# Altium footprint library apollo.PcbLib: 245 footprints (part 13 of 16)
Each footprint in its own frame and in the unit in brackets; x right, y up, seen from the top. Pads: shape width x height; smd on the part's side, far side on the other; paste and mask are expansions set on the pad; w line width, h text height; cw(c..) or ccw(c..) is an arc to the next point about the centre after c.
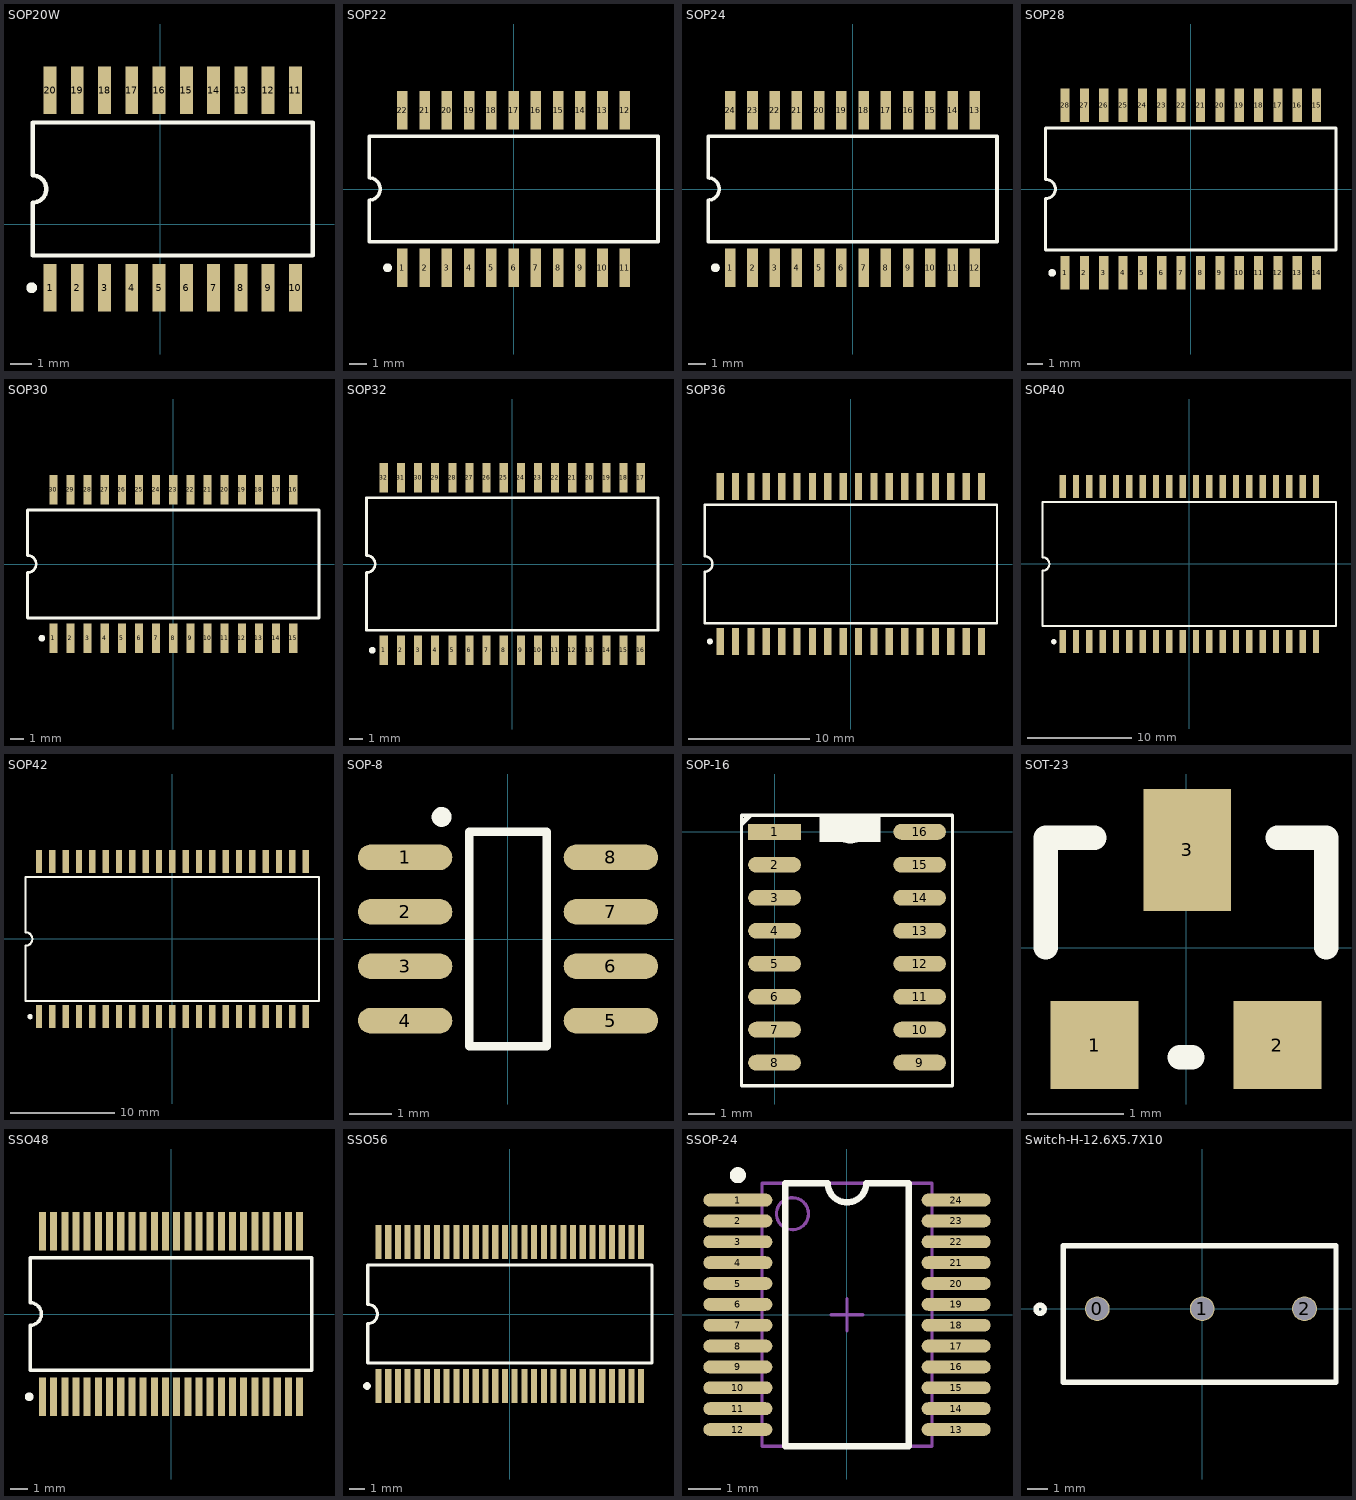
[diagram p12: the footprints below, top view; thin cyan lines are the x and y axes]

## SOP20W [mm]
height 13
pads (20):
  rect 0.6x2.2 smd: 1(-5.131,-2.949) 2(-3.861,-2.949) 3(-2.591,-2.949) 4(-1.321,-2.949) 5(-0.051,-2.949) 6(1.219,-2.949) 7(2.489,-2.949) 8(3.759,-2.949) 9(5.029,-2.949) 10(6.299,-2.949) 11(6.299,6.251) 12(5.029,6.251) 13(3.759,6.251) 14(2.489,6.251) 15(1.219,6.251) 16(-0.051,6.251) 17(-1.321,6.251) 18(-2.591,6.251) 19(-3.861,6.251) 20(-5.131,6.251)
Top Overlay:
  circle w0.25: c-5.981,-2.949 r0.125
  lines w0.2: -5.941,-1.449 -5.941,1.016 ccw(c-5.941,1.651) -5.941,2.286 -5.941,4.751 7.109,4.751 7.109,-1.449 -5.941,-1.449

## SOP22 [mm] "Small Outline; 22 Leads; Body Width 7.2 mm; Pitch 1.27 mm"
height 2.5
pads (22):
  rect 0.6x2.2 smd: 1(-6.35,-4.5) 2(-5.08,-4.5) 3(-3.81,-4.5) 4(-2.54,-4.5) 5(-1.27,-4.5) 6(0,-4.5) 7(1.27,-4.5) 8(2.54,-4.5) 9(3.81,-4.5) 10(5.08,-4.5) 11(6.35,-4.5) 12(6.35,4.5) 13(5.08,4.5) 14(3.81,4.5) 15(2.54,4.5) 16(1.27,4.5) 17(0,4.5) 18(-1.27,4.5) 19(-2.54,4.5) 20(-3.81,4.5) 21(-5.08,4.5) 22(-6.35,4.5)
Top Overlay:
  circle w0.25: c-7.2,-4.5 r0.125
  lines w0.2: -8.25,-3 -8.25,-0.635 ccw(c-8.25,0) -8.25,0.635 -8.25,3 8.25,3 8.25,-3 -8.25,-3

## SOP24 [mm] "Small Outline; 24 Leads; Body Width 7.2 mm; Pitch 1.27 mm"
height 2.5
pads (24):
  rect 0.6x2.2 smd: 1(-6.985,-4.5) 2(-5.715,-4.5) 3(-4.445,-4.5) 4(-3.175,-4.5) 5(-1.905,-4.5) 6(-0.635,-4.5) 7(0.635,-4.5) 8(1.905,-4.5) 9(3.175,-4.5) 10(4.445,-4.5) 11(5.715,-4.5) 12(6.985,-4.5) 13(6.985,4.5) 14(5.715,4.5) 15(4.445,4.5) 16(3.175,4.5) 17(1.905,4.5) 18(0.635,4.5) 19(-0.635,4.5) 20(-1.905,4.5) 21(-3.175,4.5) 22(-4.445,4.5) 23(-5.715,4.5) 24(-6.985,4.5)
Top Overlay:
  circle w0.25: c-7.835,-4.5 r0.125
  lines w0.2: -8.25,-3 8.25,-3 8.25,3 -8.25,3 -8.25,0.635 cw(c-8.25,0) -8.25,-0.635 -8.25,-3

## SOP28 [mm] "Small Outline; 28 Leads; Body Width 9.1 mm; Pitch 1.27 mm"
height 3
pads (28):
  rect 0.6x2.2 smd: 1(-8.255,-5.5) 2(-6.985,-5.5) 3(-5.715,-5.5) 4(-4.445,-5.5) 5(-3.175,-5.5) 6(-1.905,-5.5) 7(-0.635,-5.5) 8(0.635,-5.5) 9(1.905,-5.5) 10(3.175,-5.5) 11(4.445,-5.5) 12(5.715,-5.5) 13(6.985,-5.5) 14(8.255,-5.5) 15(8.255,5.5) 16(6.985,5.5) 17(5.715,5.5) 18(4.445,5.5) 19(3.175,5.5) 20(1.905,5.5) 21(0.635,5.5) 22(-0.635,5.5) 23(-1.905,5.5) 24(-3.175,5.5) 25(-4.445,5.5) 26(-5.715,5.5) 27(-6.985,5.5) 28(-8.255,5.5)
Top Overlay:
  circle w0.25: c-9.105,-5.5 r0.125
  lines w0.2: -9.525,-4 -9.525,-0.635 ccw(c-9.525,0) -9.525,0.635 -9.525,4 9.525,4 9.525,-4 -9.525,-4

## SOP30 [mm] "Small Outline; 30 Leads; Body Width 9.1 mm; Pitch 1.27 mm"
height 3
pads (30):
  rect 0.6x2.2 smd: 1(-8.89,-5.5) 2(-7.62,-5.5) 3(-6.35,-5.5) 4(-5.08,-5.5) 5(-3.81,-5.5) 6(-2.54,-5.5) 7(-1.27,-5.5) 8(0,-5.5) 9(1.27,-5.5) 10(2.54,-5.5) 11(3.81,-5.5) 12(5.08,-5.5) 13(6.35,-5.5) 14(7.62,-5.5) 15(8.89,-5.5) 16(8.89,5.5) 17(7.62,5.5) 18(6.35,5.5) 19(5.08,5.5) 20(3.81,5.5) 21(2.54,5.5) 22(1.27,5.5) 23(0,5.5) 24(-1.27,5.5) 25(-2.54,5.5) 26(-3.81,5.5) 27(-5.08,5.5) 28(-6.35,5.5) 29(-7.62,5.5) 30(-8.89,5.5)
Top Overlay:
  circle w0.25: c-9.74,-5.5 r0.125
  lines w0.2: -10.8,-4 10.8,-4 10.8,4 -10.8,4 -10.8,0.635 cw(c-10.8,0) -10.8,-0.635 -10.8,-4

## SOP32 [mm] "Small Outline; 32 Leads; Body Width 11 mm; Pitch 1.27 mm"
height 3.5
pads (32):
  rect 0.6x2.2 smd: 1(-9.525,-6.4) 2(-8.255,-6.4) 3(-6.985,-6.4) 4(-5.715,-6.4) 5(-4.445,-6.4) 6(-3.175,-6.4) 7(-1.905,-6.4) 8(-0.635,-6.4) 9(0.635,-6.4) 10(1.905,-6.4) 11(3.175,-6.4) 12(4.445,-6.4) 13(5.715,-6.4) 14(6.985,-6.4) 15(8.255,-6.4) 16(9.525,-6.4) 17(9.525,6.4) 18(8.255,6.4) 19(6.985,6.4) 20(5.715,6.4) 21(4.445,6.4) 22(3.175,6.4) 23(1.905,6.4) 24(0.635,6.4) 25(-0.635,6.4) 26(-1.905,6.4) 27(-3.175,6.4) 28(-4.445,6.4) 29(-5.715,6.4) 30(-6.985,6.4) 31(-8.255,6.4) 32(-9.525,6.4)
Top Overlay:
  circle w0.25: c-10.375,-6.4 r0.125
  lines w0.2: -10.8,-4.9 -10.8,-0.635 ccw(c-10.8,0) -10.8,0.635 -10.8,4.9 10.8,4.9 10.8,-4.9 -10.8,-4.9

## SOP36 [mm] "Small Outline; 36 Leads; Body Width 11 mm; Pitch 1.27 mm"
height 3.5
pads (36):
  rect 0.6x2.2 smd: 1(-10.795,-6.4) 2(-9.525,-6.4) 3(-8.255,-6.4) 4(-6.985,-6.4) 5(-5.715,-6.4) 6(-4.445,-6.4) 7(-3.175,-6.4) 8(-1.905,-6.4) 9(-0.635,-6.4) 10(0.635,-6.4) 11(1.905,-6.4) 12(3.175,-6.4) 13(4.445,-6.4) 14(5.715,-6.4) 15(6.985,-6.4) 16(8.255,-6.4) 17(9.525,-6.4) 18(10.795,-6.4) 19(10.795,6.4) 20(9.525,6.4) 21(8.255,6.4) 22(6.985,6.4) 23(5.715,6.4) 24(4.445,6.4) 25(3.175,6.4) 26(1.905,6.4) 27(0.635,6.4) 28(-0.635,6.4) 29(-1.905,6.4) 30(-3.175,6.4) 31(-4.445,6.4) 32(-5.715,6.4) 33(-6.985,6.4) 34(-8.255,6.4) 35(-9.525,6.4) 36(-10.795,6.4)
Top Overlay:
  circle w0.25: c-11.645,-6.4 r0.125
  lines w0.2: -12.075,-4.9 12.075,-4.9 12.075,4.9 -12.075,4.9 -12.075,0.635 cw(c-12.075,0) -12.075,-0.635 -12.075,-4.9

## SOP40 [mm] "Small Outline; 40 Leads; Body Width 12.9 mm; Pitch 1.27 mm"
height 4
pads (40):
  rect 0.6x2.2 smd: 1(-12.065,-7.4) 2(-10.795,-7.4) 3(-9.525,-7.4) 4(-8.255,-7.4) 5(-6.985,-7.4) 6(-5.715,-7.4) 7(-4.445,-7.4) 8(-3.175,-7.4) 9(-1.905,-7.4) 10(-0.635,-7.4) 11(0.635,-7.4) 12(1.905,-7.4) 13(3.175,-7.4) 14(4.445,-7.4) 15(5.715,-7.4) 16(6.985,-7.4) 17(8.255,-7.4) 18(9.525,-7.4) 19(10.795,-7.4) 20(12.065,-7.4) 21(12.065,7.4) 22(10.795,7.4) 23(9.525,7.4) 24(8.255,7.4) 25(6.985,7.4) 26(5.715,7.4) 27(4.445,7.4) 28(3.175,7.4) 29(1.905,7.4) 30(0.635,7.4) 31(-0.635,7.4) 32(-1.905,7.4) 33(-3.175,7.4) 34(-4.445,7.4) 35(-5.715,7.4) 36(-6.985,7.4) 37(-8.255,7.4) 38(-9.525,7.4) 39(-10.795,7.4) 40(-12.065,7.4)
Top Overlay:
  circle w0.25: c-12.915,-7.4 r0.125
  lines w0.2: -13.975,-5.9 -13.975,-0.635 ccw(c-13.975,0) -13.975,0.635 -13.975,5.9 13.975,5.9 13.975,-5.9 -13.975,-5.9

## SOP42 [mm] "Small Outline; 42 Leads; Body Width 12.9 mm; Pitch 1.27 mm"
height 4
pads (42):
  rect 0.6x2.2 smd: 1(-12.7,-7.4) 2(-11.43,-7.4) 3(-10.16,-7.4) 4(-8.89,-7.4) 5(-7.62,-7.4) 6(-6.35,-7.4) 7(-5.08,-7.4) 8(-3.81,-7.4) 9(-2.54,-7.4) 10(-1.27,-7.4) 11(0,-7.4) 12(1.27,-7.4) 13(2.54,-7.4) 14(3.81,-7.4) 15(5.08,-7.4) 16(6.35,-7.4) 17(7.62,-7.4) 18(8.89,-7.4) 19(10.16,-7.4) 20(11.43,-7.4) 21(12.7,-7.4) 22(12.7,7.4) 23(11.43,7.4) 24(10.16,7.4) 25(8.89,7.4) 26(7.62,7.4) 27(6.35,7.4) 28(5.08,7.4) 29(3.81,7.4) 30(2.54,7.4) 31(1.27,7.4) 32(0,7.4) 33(-1.27,7.4) 34(-2.54,7.4) 35(-3.81,7.4) 36(-5.08,7.4) 37(-6.35,7.4) 38(-7.62,7.4) 39(-8.89,7.4) 40(-10.16,7.4) 41(-11.43,7.4) 42(-12.7,7.4)
Top Overlay:
  circle w0.25: c-13.55,-7.4 r0.125
  lines w0.2: -13.975,-5.9 -13.975,-0.635 ccw(c-13.975,0) -13.975,0.635 -13.975,5.9 13.975,5.9 13.975,-5.9 -13.975,-5.9

## SOP-8 [mm] "SOP8, 芯片主体宽6.22mm"
height 1.7
pads (8):
  oval 2.2x0.6 smd: 1(-2.4,1.905) 2(-2.4,0.635) 3(-2.4,-0.635) 4(-2.4,-1.905) 5(2.4,-1.905) 6(2.4,-0.635) 7(2.4,0.635) 8(2.4,1.905)
Top Overlay:
  lines w0.2: -0.9,-2.5 -0.9,2.5 0.9,2.5 0.9,-2.5 -0.9,-2.5
  lines w0.254: -1.448,2.819 cw(c-1.548,2.848) -1.444,2.848

## SOP-16 [mil] "SSOP 16pin"
height 62.99
pads (16):
  rect 80x24 smd: 1(0,0)
  oval 80x24 smd: 2(0,-50) 3(0,-100) 4(0,-150) 5(0,-200) 6(0,-250) 7(0,-300) 8(0,-350) 9(220,-350) 10(220,-300) 11(220,-250) 12(220,-200) 13(220,-150) 14(220,-100) 15(220,-50) 16(220,0)
Top Overlay:
  rectangle: 67.91,-15.75 160.43,24.98
  lines w5: -35.12,24.98 -50.12,9.98 -50.12,14.98 -40.12,24.98 -50.12,24.98 ; 74.88,24.98 ccw(c114.88,24.98) 154.88,24.98 ; -50.12,24.98 269.88,24.98 269.88,-385.02 -50.12,-385.02 -50.12,24.98
3D body: height 60, standoff 10, extent 25,-385 195,25
3D body: height 20, standoff 0, extent -20,-8 7,7
3D body: height 35, standoff 15, extent -6.5,-8 26,7
3D body: height 35, standoff 15, extent -6.5,-58 26,-43
3D body: height 20, standoff 0, extent -20,-58 7,-43
3D body: height 35, standoff 15, extent -6.5,-108 26,-93
3D body: height 20, standoff 0, extent -20,-108 7,-93
3D body: height 35, standoff 15, extent -6.5,-158 26,-143
3D body: height 20, standoff 0, extent -20,-158 7,-143
3D body: height 35, standoff 15, extent 194,-157 226.5,-142
3D body: height 20, standoff 0, extent 213,-157 240,-142
3D body: height 35, standoff 15, extent 194,-107 226.5,-92
3D body: height 20, standoff 0, extent 213,-107 240,-92
3D body: height 35, standoff 15, extent 194,-57 226.5,-42
3D body: height 20, standoff 0, extent 213,-57 240,-42
3D body: height 35, standoff 15, extent 194,-7 226.5,8
3D body: height 20, standoff 0, extent 213,-7 240,8
3D body: height 20, standoff 0, extent -20,-208 7,-193
3D body: height 35, standoff 15, extent -6.5,-208 26,-193
3D body: height 35, standoff 15, extent -6.5,-258 26,-243
3D body: height 20, standoff 0, extent -20,-258 7,-243
3D body: height 35, standoff 15, extent -6.5,-308 26,-293
3D body: height 20, standoff 0, extent -20,-308 7,-293
3D body: height 35, standoff 15, extent 194,-307 226.5,-292
3D body: height 20, standoff 0, extent 213,-307 240,-292
3D body: height 35, standoff 15, extent 194,-257 226.5,-242
3D body: height 20, standoff 0, extent 213,-257 240,-242
3D body: height 35, standoff 15, extent 194,-207 226.5,-192
3D body: height 20, standoff 0, extent 213,-207 240,-192
3D body: height 61, standoff 60, extent 36,-9 55.92,10.96
3D body: height 61, standoff 60, extent 68,-12 152,22
3D body: height 20, standoff 0, extent 213,-357 240,-342
3D body: height 35, standoff 15, extent 194,-357 226.5,-342
3D body: height 20, standoff 0, extent -20,-358 7,-343
3D body: height 35, standoff 15, extent -6.5,-358 26,-343

## SOT-23 [mil] "SOT23"
pads (3):
  rect 36x36 smd: 1(-37.5,-40) 2(37.5,-40)
  rect 36x50 smd: 3(0.5,40)
Top Overlay:
  lines w10: -57.5,0 -57.5,45 -37.5,45 ; -2.5,-45 2.5,-45 ; 37.5,45 57.5,45 57.5,0

## SSO48 [mm] "SSOP; 48 Leads; Body Width 7.5 mm; Pitch 0.635 mm"
height 2.79
pads (48):
  rect 0.4x2.2 smd: 1(-7.302,-4.7) 2(-6.667,-4.7) 3(-6.032,-4.7) 4(-5.397,-4.7) 5(-4.763,-4.7) 6(-4.127,-4.7) 7(-3.492,-4.7) 8(-2.857,-4.7) 9(-2.222,-4.7) 10(-1.587,-4.7) 11(-0.953,-4.7) 12(-0.318,-4.7) 13(0.318,-4.7) 14(0.953,-4.7) 15(1.587,-4.7) 16(2.222,-4.7) 17(2.857,-4.7) 18(3.492,-4.7) 19(4.127,-4.7) 20(4.763,-4.7) 21(5.397,-4.7) 22(6.032,-4.7) 23(6.667,-4.7) 24(7.302,-4.7) 25(7.302,4.7) 26(6.667,4.7) 27(6.032,4.7) 28(5.397,4.7) 29(4.763,4.7) 30(4.127,4.7) 31(3.492,4.7) 32(2.857,4.7) 33(2.222,4.7) 34(1.587,4.7) 35(0.953,4.7) 36(0.318,4.7) 37(-0.318,4.7) 38(-0.953,4.7) 39(-1.587,4.7) 40(-2.222,4.7) 41(-2.857,4.7) 42(-3.492,4.7) 43(-4.127,4.7) 44(-4.763,4.7) 45(-5.397,4.7) 46(-6.032,4.7) 47(-6.667,4.7) 48(-7.302,4.7)
Top Overlay:
  circle w0.25: c-8.053,-4.7 r0.125
  lines w0.2: -8,-3.2 8,-3.2 8,3.2 -8,3.2 -8,0.635 cw(c-8,0) -8,-0.635 -8,-3.2

## SSO56 [mm] "SSOP; 56 Leads; Body Width 7.5 mm; Pitch 0.635 mm"
height 2.79
pads (56):
  rect 0.4x2.2 smd: 1(-8.572,-4.7) 2(-7.938,-4.7) 3(-7.302,-4.7) 4(-6.667,-4.7) 5(-6.032,-4.7) 6(-5.397,-4.7) 7(-4.763,-4.7) 8(-4.127,-4.7) 9(-3.492,-4.7) 10(-2.857,-4.7) 11(-2.222,-4.7) 12(-1.587,-4.7) 13(-0.953,-4.7) 14(-0.318,-4.7) 15(0.318,-4.7) 16(0.953,-4.7) 17(1.587,-4.7) 18(2.222,-4.7) 19(2.857,-4.7) 20(3.492,-4.7) 21(4.127,-4.7) 22(4.763,-4.7) 23(5.397,-4.7) 24(6.032,-4.7) 25(6.667,-4.7) 26(7.302,-4.7) 27(7.938,-4.7) 28(8.572,-4.7) 29(8.572,4.7) 30(7.938,4.7) 31(7.302,4.7) 32(6.667,4.7) 33(6.032,4.7) 34(5.397,4.7) 35(4.763,4.7) 36(4.127,4.7) 37(3.492,4.7) 38(2.857,4.7) 39(2.222,4.7) 40(1.587,4.7) 41(0.953,4.7) 42(0.318,4.7) 43(-0.318,4.7) 44(-0.953,4.7) 45(-1.587,4.7) 46(-2.222,4.7) 47(-2.857,4.7) 48(-3.492,4.7) 49(-4.127,4.7) 50(-4.763,4.7) 51(-5.397,4.7) 52(-6.032,4.7) 53(-6.667,4.7) 54(-7.302,4.7) 55(-7.938,4.7) 56(-8.572,4.7)
Top Overlay:
  circle w0.25: c-9.323,-4.7 r0.125
  lines w0.2: -9.275,-3.2 -9.275,-0.635 ccw(c-9.275,0) -9.275,0.635 -9.275,3.2 9.275,3.2 9.275,-3.2 -9.275,-3.2

## SSOP-24 [mm] "SSOP  24pin"
pads (24):
  oval 2.15x0.4 smd: 1(-3.4,3.575) 2(-3.4,2.925) 3(-3.4,2.275) 4(-3.4,1.625) 5(-3.4,0.975) 6(-3.4,0.325) 7(-3.4,-0.325) 8(-3.4,-0.975) 9(-3.4,-1.625) 10(-3.4,-2.275) 11(-3.4,-2.925) 12(-3.4,-3.575) 13(3.4,-3.575) 14(3.4,-2.925) 15(3.4,-2.275) 16(3.4,-1.625) 17(3.4,-0.975) 18(3.4,-0.325) 19(3.4,0.325) 20(3.4,0.975) 21(3.4,1.625) 22(3.4,2.275) 23(3.4,2.925) 24(3.4,3.575)
Top Overlay:
  circle w0.25: c-3.4,4.35 r0.125
  lines w0.2: -1.925,-4.1 -1.925,4.1 -0.6,4.1 ccw(c0,4.1) 0.6,4.1 1.925,4.1 1.925,-4.1 -1.925,-4.1
Mechanical 13:
  circle w0.1: c-1.7,3.15 r0.5
  lines w0.1: -2.65,-4.1 -2.65,4.1 2.65,4.1 2.65,-4.1 -2.65,-4.1
Mechanical 15:
  lines w0.1: -0.5,0 0.5,0 ; 0,-0.5 0,0.5

## Switch-H-12.6X5.7X10 [mm] "直插按键开关"
height 10
pads (3):
  round 1.2 hole 1.1: 0(-5.08,0) 1(0,0) 2(4.953,0)
Top Overlay:
  lines w0.254: -7.675,-0.122 cw(c-7.849,-0.025) -7.65,-0.025 ; -6.731,-3.556 -6.731,3.048 6.477,3.048 6.477,-3.556 -6.731,-3.556